# EAGLE library part BLUE_NRG (library blue_nrg)
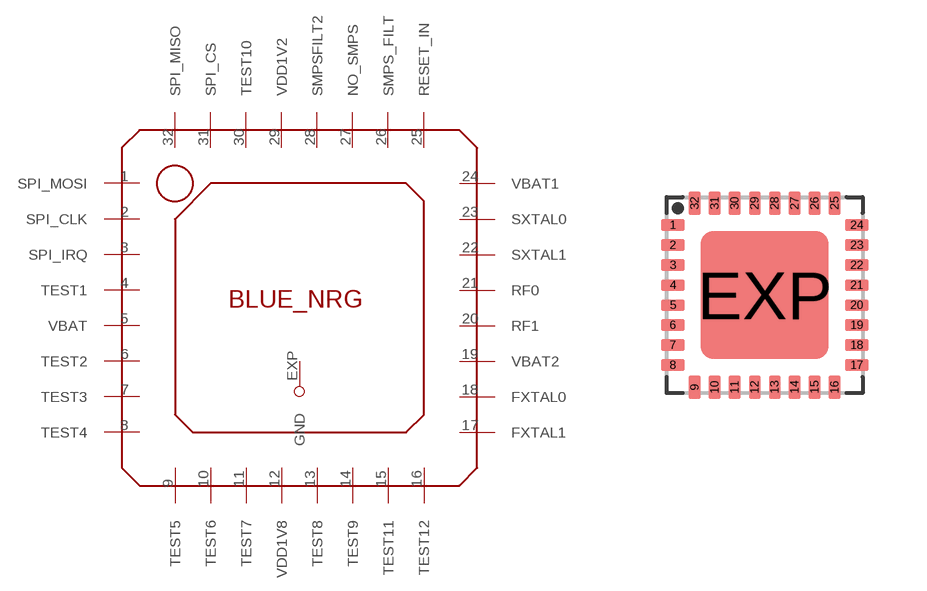
[diagram p0: symbol with the pads of QFN32; footprint QFN32]

Designator prefix -

## BLUE_NRG  [QFN32]
1  SPI_MOSI
2  SPI_CLK
3  SPI_IRQ
4  TEST1
5  VBAT
6  TEST2
7  TEST3
8  TEST4
9  TEST5
10  TEST6
11  TEST7
12  VDD1V8
13  TEST8
14  TEST9
15  TEST11
16  TEST12
17  FXTAL1
18  FXTAL0
19  VBAT2
20  RF1
21  RF0
22  SXTAL1
23  SXTAL0
24  VBAT1
25  RESET_IN
26  SMPS_FILT
27  NO_SMPS
28  SMPSFILT2
29  VDD1V2
30  TEST10
31  SPI_CS
32  SPI_MISO
EXP  GND

## Footprint QFN32 (pad centres in mm)
QFN 32 Source: http://www.ftdichip.com/Documents/DataSheets/DS_FT232R_v104.pdf
smd 0.6 x 0.3: 1 -2.3,1.75; 2 -2.3,1.25; 3 -2.3,0.75; 4 -2.3,0.25; 5 -2.3,-0.25; 6 -2.3,-0.75; 7 -2.3,-1.25; 8 -2.3,-1.75; 17 2.3,-1.75; 18 2.3,-1.25; 19 2.3,-0.75; 20 2.3,-0.25; 21 2.3,0.25; 22 2.3,0.75; 23 2.3,1.25; 24 2.3,1.75
smd 0.3 x 0.6: 9 -1.75,-2.3; 10 -1.25,-2.3; 11 -0.75,-2.3; 12 -0.25,-2.3; 13 0.25,-2.3; 14 0.75,-2.3; 15 1.25,-2.3; 16 1.75,-2.3; 25 1.75,2.3; 26 1.25,2.3; 27 0.75,2.3; 28 0.25,2.3; 29 -0.25,2.3; 30 -0.75,2.3; 31 -1.25,2.3; 32 -1.75,2.3
smd 3.2 x 3.2: EXP 0,0